# Altium footprint library WR-WTB_1.25mm.PcbLib: 46 footprints (part 1 of 3)
Each footprint in its own frame and in the unit in brackets; x right, y up, seen from the top. Pads: shape width x height; smd on the part's side, far side on the other; paste and mask are expansions set on the pad; w line width, h text height; cw(c..) or ccw(c..) is an arc to the next point about the centre after c.
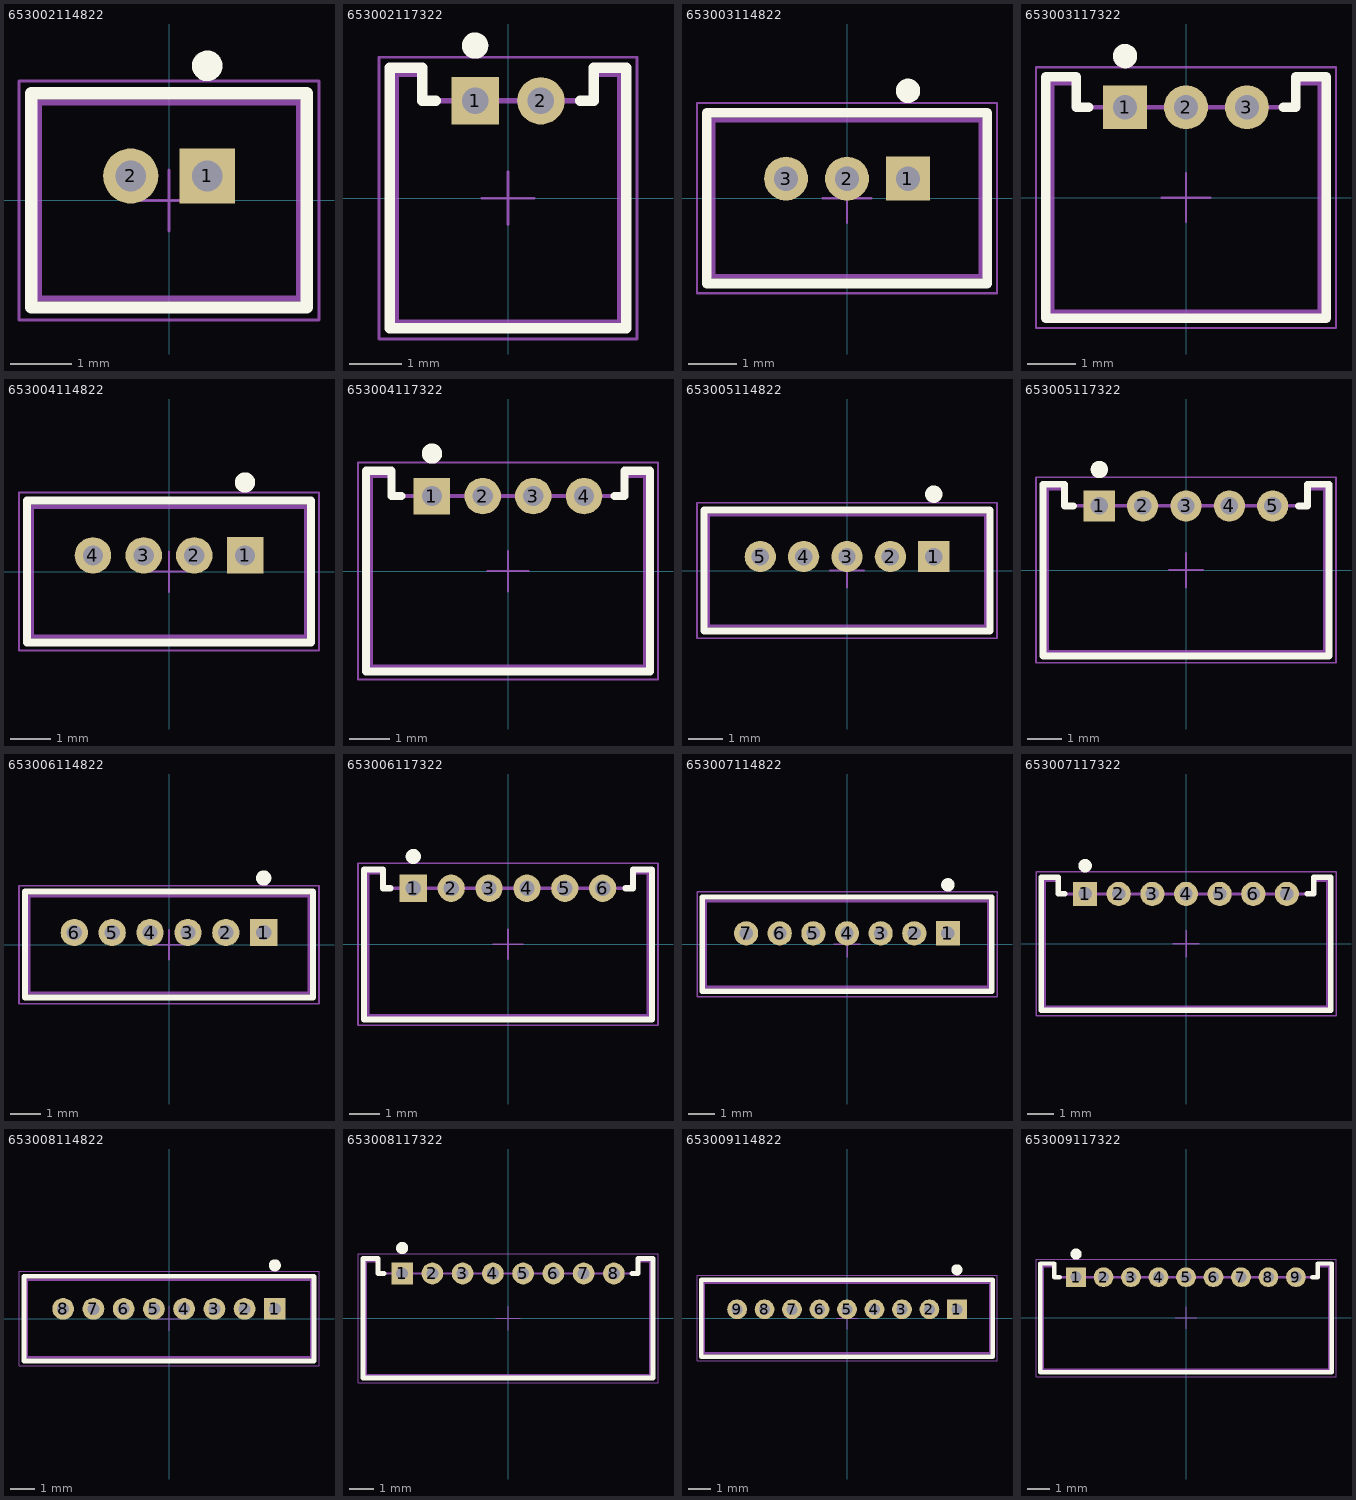
[diagram p0: the footprints below, top view; thin cyan lines are the x and y axes]

## 653002114822 [mm] "1.25mm Male Vertical Shrouded Header, 2p"
height 4.2
pads (2):
  rect 0.9x0.9 hole 0.5: 1(0.625,0.4)
  round 0.9 hole 0.5: 2(-0.625,0.4)
Top Overlay:
  circle w0.25: c0.625,2.2 r0.125
  lines w0.2: -2.25,-1.75 -2.25,1.75 2.25,1.75 2.25,-1.75 -2.25,-1.75
Mechanical 13:
  lines w0.1: -2.125,-1.6 2.125,-1.6 2.125,1.6 -2.125,1.6 -2.125,-1.6
Mechanical 15:
  lines w0.05: -0.5,0 0.5,0 ; 0,-0.5 0,0.5 ; -2.45,-1.95 -2.45,1.95 2.45,1.95 2.45,-1.95 -2.45,-1.95
3D body "653002114822.stp": height 4.23, standoff -2.27, extent -2.125,-1.6 2.125,1.6

## 653002117322 [mm] "1.25mm Male Horizontal Shrouded Header, 2p"
height 3.5
pads (2):
  rect 0.9x0.9 hole 0.5: 1(-0.625,1.85)
  round 0.9 hole 0.5: 2(0.625,1.85)
Top Overlay:
  circle w0.25: c-0.625,2.9 r0.125
  lines w0.2: -1.375,1.85 -1.625,1.85 -1.625,2.475 -2.25,2.475 -2.25,-2.475 2.25,-2.475 2.25,2.475 1.625,2.475 1.625,1.85 1.375,1.85
Mechanical 13:
  lines w0.1: -2.125,-2.35 -2.125,2.35 -1.625,2.35 -1.625,1.85 1.625,1.85 1.625,2.35 2.125,2.35 2.125,-2.35 -2.125,-2.35
Mechanical 15:
  lines w0.05: -0.5,0 0.5,0 ; 0,-0.5 0,0.5 ; -2.45,-2.675 -2.45,2.675 2.45,2.675 2.45,-2.675 -2.45,-2.675
3D body "653002117322.stp": height 3.53, standoff -2.27, extent -2.125,-2.35 2.125,2.35

## 653003114822 [mm] "1.25mm Male Vertical Shrouded Header, 3p"
height 4.2
pads (3):
  rect 0.9x0.9 hole 0.5: 1(1.25,0.4)
  round 0.9 hole 0.5: 2(0,0.4) 3(-1.25,0.4)
Top Overlay:
  circle w0.25: c1.25,2.2 r0.125
  lines w0.2: -2.875,-1.75 -2.875,1.75 2.875,1.75 2.875,-1.75 -2.875,-1.75
Mechanical 13:
  lines w0.1: -2.75,-1.6 2.75,-1.6 2.75,1.6 -2.75,1.6 -2.75,-1.6
Mechanical 15:
  lines w0.05: -0.5,0 0.5,0 ; 0,-0.5 0,0.5 ; -3.075,-1.95 -3.075,1.95 3.075,1.95 3.075,-1.95 -3.075,-1.95
3D body "653003114822.stp": height 4.23, standoff -2.27, extent -2.75,-1.6 2.75,1.6

## 653003117322 [mm] "1.25mm Male Horizontal Shrouded Header, 3p"
height 3.5
pads (3):
  rect 0.9x0.9 hole 0.5: 1(-1.25,1.85)
  round 0.9 hole 0.5: 2(0,1.85) 3(1.25,1.85)
Top Overlay:
  circle w0.25: c-1.25,2.9 r0.125
  lines w0.2: -2,1.85 -2.25,1.85 -2.25,2.475 -2.875,2.475 -2.875,-2.475 2.875,-2.475 2.875,2.475 2.25,2.475 2.25,1.85 2,1.85
Mechanical 13:
  lines w0.1: -2.75,-2.35 2.75,-2.35 2.75,2.35 2.25,2.35 2.25,1.85 -2.25,1.85 -2.25,2.35 -2.75,2.35 -2.75,-2.35
Mechanical 15:
  lines w0.05: -0.5,0 0.5,0 ; 0,-0.5 0,0.5 ; -3.075,-2.675 3.075,-2.675 3.075,2.675 -3.075,2.675 -3.075,-2.675
3D body "653003117322.stp": height 3.53, standoff -2.27, extent -2.75,-2.35 2.75,2.35

## 653004114822 [mm] "1.25mm Male Vertical Shrouded Header, 4p"
height 4.2
pads (4):
  rect 0.9x0.9 hole 0.5: 1(1.875,0.4)
  round 0.9 hole 0.5: 2(0.625,0.4) 3(-0.625,0.4) 4(-1.875,0.4)
Top Overlay:
  circle w0.25: c1.875,2.2 r0.125
  lines w0.2: -3.5,-1.75 -3.5,1.75 3.5,1.75 3.5,-1.75 -3.5,-1.75
Mechanical 13:
  lines w0.1: -3.375,-1.6 3.375,-1.6 3.375,1.6 -3.375,1.6 -3.375,-1.6
Mechanical 15:
  lines w0.05: -0.5,0 0.5,0 ; 0,-0.5 0,0.5 ; -3.7,-1.95 -3.7,1.95 3.7,1.95 3.7,-1.95 -3.7,-1.95
3D body "653004114822.stp": height 4.23, standoff -2.27, extent -3.375,-1.6 3.375,1.6

## 653004117322 [mm] "1.25mm Male Horizontal Shrouded Header, 4p"
height 3.5
pads (4):
  rect 0.9x0.9 hole 0.5: 1(-1.875,1.85)
  round 0.9 hole 0.5: 2(-0.625,1.85) 3(0.625,1.85) 4(1.875,1.85)
Top Overlay:
  circle w0.25: c-1.875,2.9 r0.125
  lines w0.2: -2.625,1.85 -2.875,1.85 -2.875,2.475 -3.5,2.475 -3.5,-2.475 3.5,-2.475 3.5,2.475 2.875,2.475 2.875,1.85 2.625,1.85
Mechanical 13:
  lines w0.1: -3.375,-2.35 3.375,-2.35 3.375,2.35 2.875,2.35 2.875,1.85 -2.875,1.85 -2.875,2.35 -3.375,2.35 -3.375,-2.35
Mechanical 15:
  lines w0.05: -0.5,0 0.5,0 ; 0,-0.5 0,0.5 ; -3.7,-2.675 3.7,-2.675 3.7,2.675 -3.7,2.675 -3.7,-2.675
3D body "653004117322.stp": height 3.53, standoff -2.27, extent -3.375,-2.35 3.375,2.35

## 653005114822 [mm] "1.25mm Male Vertical Shrouded Header, 5p"
height 4.2
pads (5):
  rect 0.9x0.9 hole 0.5: 1(2.5,0.4)
  round 0.9 hole 0.5: 2(1.25,0.4) 3(0,0.4) 4(-1.25,0.4) 5(-2.5,0.4)
Top Overlay:
  circle w0.25: c2.5,2.2 r0.125
  lines w0.2: -4.125,-1.75 4.125,-1.75 4.125,1.75 -4.125,1.75 -4.125,-1.75
Mechanical 13:
  lines w0.1: -4,-1.6 -4,1.6 4,1.6 4,-1.6 -4,-1.6
Mechanical 15:
  lines w0.05: -0.5,0 0.5,0 ; 0,-0.5 0,0.5 ; -4.325,-1.95 4.325,-1.95 4.325,1.95 -4.325,1.95 -4.325,-1.95
3D body "653005114822.stp": height 4.23, standoff -2.27, extent -4,-1.6 4,1.6

## 653005117322 [mm] "1.25mm Male Horizontal Shrouded Header, 5p"
height 3.5
pads (5):
  rect 0.9x0.9 hole 0.5: 1(-2.5,1.85)
  round 0.9 hole 0.5: 2(-1.25,1.85) 3(0,1.85) 4(1.25,1.85) 5(2.5,1.85)
Top Overlay:
  circle w0.25: c-2.5,2.9 r0.125
  lines w0.2: -3.25,1.85 -3.5,1.85 -3.5,2.475 -4.125,2.475 -4.125,-2.475 4.125,-2.475 4.125,2.475 3.5,2.475 3.5,1.85 3.25,1.85
Mechanical 13:
  lines w0.1: -4,-2.35 4,-2.35 4,2.35 3.5,2.35 3.5,1.85 -3.5,1.85 -3.5,2.35 -4,2.35 -4,-2.35
Mechanical 15:
  lines w0.05: -0.5,0 0.5,0 ; 0,-0.5 0,0.5 ; -4.325,-2.675 4.325,-2.675 4.325,2.675 -4.325,2.675 -4.325,-2.675
3D body "653005117322.stp": height 3.53, standoff -2.27, extent -4,-2.35 4,2.35

## 653006114822 [mm] "1.25mm Male Vertical Shrouded Header, 6p"
height 4.2
pads (6):
  rect 0.9x0.9 hole 0.5: 1(3.125,0.4)
  round 0.9 hole 0.5: 2(1.875,0.4) 3(0.625,0.4) 4(-0.625,0.4) 5(-1.875,0.4) 6(-3.125,0.4)
Top Overlay:
  circle w0.25: c3.125,2.2 r0.125
  lines w0.2: -4.75,-1.75 4.75,-1.75 4.75,1.75 -4.75,1.75 -4.75,-1.75
Mechanical 13:
  lines w0.1: -4.625,-1.6 -4.625,1.6 4.625,1.6 4.625,-1.6 -4.625,-1.6
Mechanical 15:
  lines w0.05: -0.5,0 0.5,0 ; 0,-0.5 0,0.5 ; -4.95,-1.95 4.95,-1.95 4.95,1.95 -4.95,1.95 -4.95,-1.95
3D body "653006114822.stp": height 4.23, standoff -2.27, extent -4.625,-1.6 4.625,1.6

## 653006117322 [mm] "1.25mm Male Horizontal Shrouded Header, 6p"
height 3.5
pads (6):
  rect 0.9x0.9 hole 0.5: 1(-3.125,1.85)
  round 0.9 hole 0.5: 2(-1.875,1.85) 3(-0.625,1.85) 4(0.625,1.85) 5(1.875,1.85) 6(3.125,1.85)
Top Overlay:
  circle w0.25: c-3.125,2.9 r0.125
  lines w0.2: -3.875,1.85 -4.125,1.85 -4.125,2.475 -4.75,2.475 -4.75,-2.475 4.75,-2.475 4.75,2.475 4.125,2.475 4.125,1.85 3.875,1.85
Mechanical 13:
  lines w0.1: -4.625,-2.35 4.625,-2.35 4.625,2.35 4.125,2.35 4.125,1.85 -4.125,1.85 -4.125,2.35 -4.625,2.35 -4.625,-2.35
Mechanical 15:
  lines w0.05: -0.5,0 0.5,0 ; 0,-0.5 0,0.5 ; -4.95,-2.675 4.95,-2.675 4.95,2.675 -4.95,2.675 -4.95,-2.675
3D body "653006117322.stp": height 3.53, standoff -2.27, extent -4.625,-2.35 4.625,2.35

## 653007114822 [mm] "1.25mm Male Vertical Shrouded Header, 7p"
height 4.2
pads (7):
  rect 0.9x0.9 hole 0.5: 1(3.75,0.4)
  round 0.9 hole 0.5: 2(2.5,0.4) 3(1.25,0.4) 4(0,0.4) 5(-1.25,0.4) 6(-2.5,0.4) 7(-3.75,0.4)
Top Overlay:
  circle w0.25: c3.75,2.2 r0.125
  lines w0.2: -5.375,-1.75 -5.375,1.75 5.375,1.75 5.375,-1.75 -5.375,-1.75
Mechanical 13:
  lines w0.1: -5.25,-1.6 5.25,-1.6 5.25,1.6 -5.25,1.6 -5.25,-1.6
Mechanical 15:
  lines w0.05: -0.5,0 0.5,0 ; 0,-0.5 0,0.5 ; -5.575,-1.95 -5.575,1.95 5.575,1.95 5.575,-1.95 -5.575,-1.95
3D body "653007114822.stp": height 4.23, standoff -2.27, extent -5.25,-1.6 5.25,1.6

## 653007117322 [mm] "1.25mm Male Horizontal Shrouded Header, 7p"
height 3.5
pads (7):
  rect 0.9x0.9 hole 0.5: 1(-3.75,1.85)
  round 0.9 hole 0.5: 2(-2.5,1.85) 3(-1.25,1.85) 4(0,1.85) 5(1.25,1.85) 6(2.5,1.85) 7(3.75,1.85)
Top Overlay:
  circle w0.25: c-3.75,2.9 r0.125
  lines w0.2: -4.5,1.85 -4.75,1.85 -4.75,2.475 -5.375,2.475 -5.375,-2.475 5.375,-2.475 5.375,2.475 4.75,2.475 4.75,1.85 4.5,1.85
Mechanical 13:
  lines w0.1: -5.25,-2.35 5.25,-2.35 5.25,2.35 4.75,2.35 4.75,1.85 -4.75,1.85 -4.75,2.35 -5.25,2.35 -5.25,-2.35
Mechanical 15:
  lines w0.05: -0.5,0 0.5,0 ; 0,-0.5 0,0.5 ; -5.575,-2.675 5.575,-2.675 5.575,2.675 -5.575,2.675 -5.575,-2.675
3D body "653007117322.stp": height 3.53, standoff -2.27, extent -5.25,-2.35 5.25,2.35

## 653008114822 [mm] "1.25mm Male Vertical Shrouded Header, 8p"
height 4.2
pads (8):
  rect 0.9x0.9 hole 0.5: 1(4.375,0.4)
  round 0.9 hole 0.5: 2(3.125,0.4) 3(1.875,0.4) 4(0.625,0.4) 5(-0.625,0.4) 6(-1.875,0.4) 7(-3.125,0.4) 8(-4.375,0.4)
Top Overlay:
  circle w0.25: c4.375,2.2 r0.125
  lines w0.2: -6,-1.75 -6,1.75 6,1.75 6,-1.75 -6,-1.75
Mechanical 13:
  lines w0.1: -5.875,-1.6 5.875,-1.6 5.875,1.6 -5.875,1.6 -5.875,-1.6
Mechanical 15:
  lines w0.05: -0.5,0 0.5,0 ; 0,-0.5 0,0.5 ; -6.2,-1.95 -6.2,1.95 6.2,1.95 6.2,-1.95 -6.2,-1.95
3D body "653008114822.stp": height 4.23, standoff -2.27, extent -5.875,-1.6 5.875,1.6

## 653008117322 [mm] "1.25mm Male Horizontal Shrouded Header, 8p"
height 3.5
pads (8):
  rect 0.9x0.9 hole 0.5: 1(-4.375,1.85)
  round 0.9 hole 0.5: 2(-3.125,1.85) 3(-1.875,1.85) 4(-0.625,1.85) 5(0.625,1.85) 6(1.875,1.85) 7(3.125,1.85) 8(4.375,1.85)
Top Overlay:
  circle w0.25: c-4.375,2.9 r0.125
  lines w0.2: -5.125,1.85 -5.375,1.85 -5.375,2.475 -6,2.475 -6,-2.475 6,-2.475 6,2.475 5.375,2.475 5.375,1.85 5.125,1.85
Mechanical 13:
  lines w0.1: -5.875,-2.35 -5.875,2.35 -5.375,2.35 -5.375,1.85 5.375,1.85 5.375,2.35 5.875,2.35 5.875,-2.35 -5.875,-2.35
Mechanical 15:
  lines w0.05: -0.5,0 0.5,0 ; 0,-0.5 0,0.5 ; -6.2,-2.675 -6.2,2.675 6.2,2.675 6.2,-2.675 -6.2,-2.675
3D body "653008117322.stp": height 3.53, standoff -2.27, extent -5.875,-2.35 5.875,2.35

## 653009114822 [mm] "1.25mm Male Vertical Shrouded Header, 9p"
height 4.2
pads (9):
  rect 0.9x0.9 hole 0.5: 1(5,0.4)
  round 0.9 hole 0.5: 2(3.75,0.4) 3(2.5,0.4) 4(1.25,0.4) 5(0,0.4) 6(-1.25,0.4) 7(-2.5,0.4) 8(-3.75,0.4) 9(-5,0.4)
Top Overlay:
  circle w0.25: c5,2.2 r0.125
  lines w0.2: -6.625,-1.75 6.625,-1.75 6.625,1.75 -6.625,1.75 -6.625,-1.75
Mechanical 13:
  lines w0.1: -6.5,-1.6 -6.5,1.6 6.5,1.6 6.5,-1.6 -6.5,-1.6
Mechanical 15:
  lines w0.05: -0.5,0 0.5,0 ; 0,-0.5 0,0.5 ; -6.825,-1.95 6.825,-1.95 6.825,1.95 -6.825,1.95 -6.825,-1.95
3D body "653009114822.stp": height 4.23, standoff -2.27, extent -6.5,-1.6 6.5,1.6

## 653009117322 [mm] "1.25mm Male Horizontal Shrouded Header, 9p"
height 3.5
pads (9):
  rect 0.9x0.9 hole 0.5: 1(-5,1.85)
  round 0.9 hole 0.5: 2(-3.75,1.85) 3(-2.5,1.85) 4(-1.25,1.85) 5(0,1.85) 6(1.25,1.85) 7(2.5,1.85) 8(3.75,1.85) 9(5,1.85)
Top Overlay:
  circle w0.25: c-5,2.9 r0.125
  lines w0.2: -5.75,1.85 -6,1.85 -6,2.475 -6.625,2.475 -6.625,-2.475 6.625,-2.475 6.625,2.475 6,2.475 6,1.85 5.75,1.85
Mechanical 13:
  lines w0.1: -6.5,-2.35 6.5,-2.35 6.5,2.35 6,2.35 6,1.85 -6,1.85 -6,2.35 -6.5,2.35 -6.5,-2.35
Mechanical 15:
  lines w0.05: -0.5,0 0.5,0 ; 0,-0.5 0,0.5 ; -6.825,-2.675 6.825,-2.675 6.825,2.675 -6.825,2.675 -6.825,-2.675
3D body "653009117322.stp": height 3.53, standoff -2.27, extent -6.5,-2.35 6.5,2.35